# EAGLE library part 1X7_1.27MM (library Moo1.2)
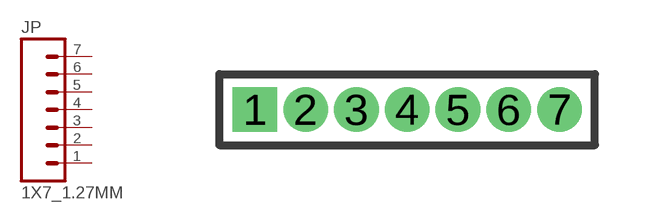
[diagram p9: symbol with the pads of 1X7_1.27MM; footprint 1X7_1.27MM]

Designator prefix JP

## 1X7_1.27MM  [1X7_1.27MM]
1  1  pas
2  2  pas
3  3  pas
4  4  pas
5  5  pas
6  6  pas
7  7  pas

## Footprint 1X7_1.27MM (pad centres in mm)
drill 0.61 pad 0.991 square: 1 -3.81,0
drill 0.61 pad 0.991: 2 -2.54,0; 3 -1.27,0; 4 0,0; 5 1.27,0; 6 2.54,0; 7 3.81,0